# EAGLE library part S29GL512S10TFI010 (library SamacSys_Parts)
NOR Flash 512Mb 3V 100ns Parallel NOR Flash 1-Gbit (128 Mbyte)/512-Mbit (64 Mbyte)/ 256-Mbit (32 Mbyte)/128-Mbit (16 Mbyte), 3.0 V, GL-S Flash Memory Source: Datasheet <https://datasheet.lcsc.com/szlcsc/1905211532_Cypress-Semicon-S29GL512S10TFI010_C393876.pdf>
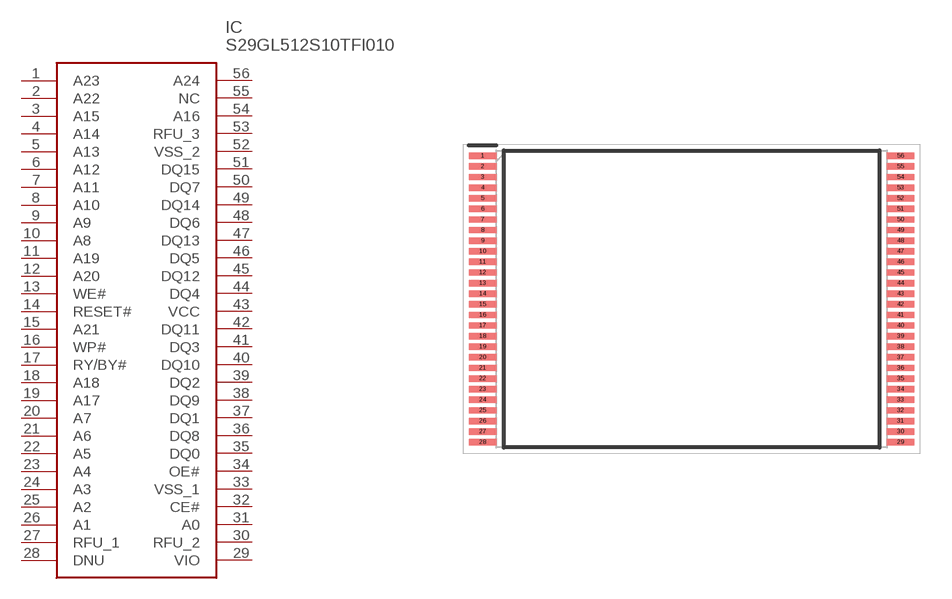
[diagram p231: symbol with the pads of SOP50P2000X120-56N; footprint SOP50P2000X120-56N]

Designator prefix IC

## S29GL512S10TFI010 (DESCRIPTION: NOR Flash 512Mb 3V 100ns Parallel NOR Flash 1-Gbit (128 Mbyte)/512-Mbit (64 Mbyte)/ 256-Mbit (32 Mbyte)/128-Mbit (16 Mbyte), 3.0 V, GL-S Flash Memory; HEIGHT: 1.2mm; MANUFACTURER_NAME: Cypress Semicon; MANUFACTURER_PART_NUMBER: S29GL512S10TFI010)  [SOP50P2000X120-56N]
1  A23
2  A22
3  A15
4  A14
5  A13
6  A12
7  A11
8  A10
9  A9
10  A8
11  A19
12  A20
13  WE#
14  RESET#
15  A21
16  WP#
17  RY/BY#
18  A18
19  A17
20  A7
21  A6
22  A5
23  A4
24  A3
25  A2
26  A1
27  RFU_1
28  DNU
29  VIO
30  RFU_2
31  A0
32  CE#
33  VSS_1
34  OE#
35  DQ0
36  DQ8
37  DQ1
38  DQ9
39  DQ2
40  DQ10
41  DQ3
42  DQ11
43  VCC
44  DQ4
45  DQ12
46  DQ5
47  DQ13
48  DQ6
49  DQ14
50  DQ7
51  DQ15
52  VSS_2
53  RFU_3
54  A16
55  NC  nc
56  A24

## Footprint SOP50P2000X120-56N (pad centres in mm)
56-Pin TSOP 14mm x 20mm
smd 1.3 x 0.3: 1 -9.85,6.75; 2 -9.85,6.25; 3 -9.85,5.75; 4 -9.85,5.25; 5 -9.85,4.75; 6 -9.85,4.25; 7 -9.85,3.75; 8 -9.85,3.25; 9 -9.85,2.75; 10 -9.85,2.25; 11 -9.85,1.75; 12 -9.85,1.25; 13 -9.85,0.75; 14 -9.85,0.25; 15 -9.85,-0.25; 16 -9.85,-0.75; 17 -9.85,-1.25; 18 -9.85,-1.75; 19 -9.85,-2.25; 20 -9.85,-2.75; 21 -9.85,-3.25; 22 -9.85,-3.75; 23 -9.85,-4.25; 24 -9.85,-4.75; 25 -9.85,-5.25; 26 -9.85,-5.75; 27 -9.85,-6.25; 28 -9.85,-6.75; 29 9.85,-6.75; 30 9.85,-6.25; 31 9.85,-5.75; 32 9.85,-5.25; 33 9.85,-4.75; 34 9.85,-4.25; 35 9.85,-3.75; 36 9.85,-3.25; 37 9.85,-2.75; 38 9.85,-2.25; 39 9.85,-1.75; 40 9.85,-1.25; 41 9.85,-0.75; 42 9.85,-0.25; 43 9.85,0.25; 44 9.85,0.75; 45 9.85,1.25; 46 9.85,1.75; 47 9.85,2.25; 48 9.85,2.75; 49 9.85,3.25; 50 9.85,3.75; 51 9.85,4.25; 52 9.85,4.75; 53 9.85,5.25; 54 9.85,5.75; 55 9.85,6.25; 56 9.85,6.75